# Altium footprint library CN_BNC_RA.PcbLib: 1 footprints
Each footprint in its own frame and in the unit in brackets; x right, y up, seen from the top. Pads: shape width x height; smd on the part's side, far side on the other; paste and mask are expansions set on the pad; w line width, h text height; cw(c..) or ccw(c..) is an arc to the next point about the centre after c.
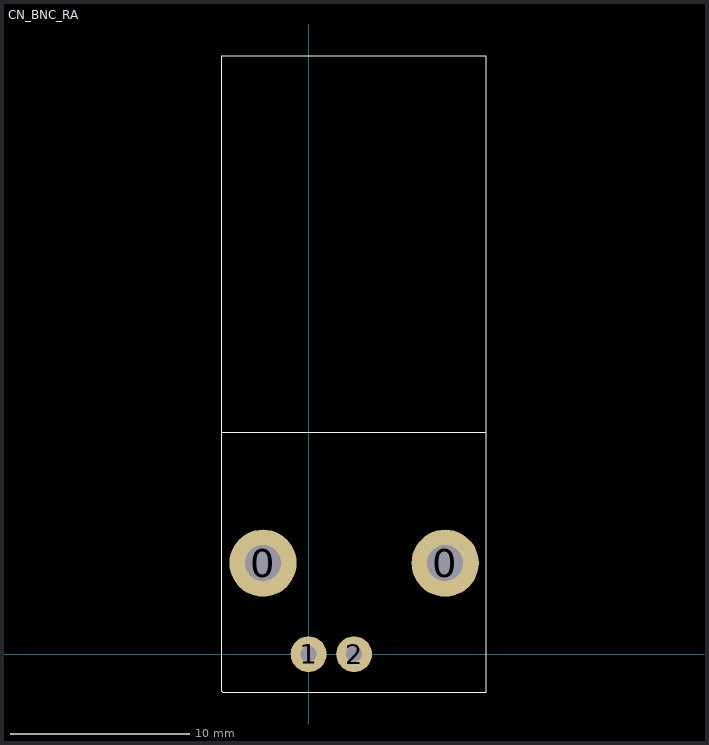
[diagram p0: the footprint, top view; thin cyan lines are the x and y axes]

## CN_BNC_RA [mm]
pads (4):
  round 3.75 hole 2: 0(-2.54,5.08) 0(7.62,5.08)
  round 2 hole 0.9: 1(0,0) 2(2.54,0)
Top Overlay:
  lines w0.051: -4.84,12.38 9.91,12.38 ; 9.91,33.38 9.91,-2.12 -4.79,-2.12 -4.84,-2.07 -4.84,33.38 9.91,33.38 ; 9.91,33.38 9.91,33.38
3D body: height 15.78, standoff -4.32, extent -4.84,-2.07 9.86,33.43
3D body: height 15.24, standoff 1.04, extent -4.66,23.75 9.54,50.05